# Altium schematic symbol library H27UCG8T2ATR.SchLib: 1 symbol
Pins are listed as number, name and electrical type; pins without a type are passive.

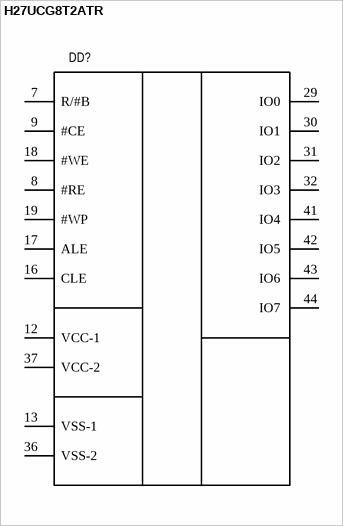
[diagram p0: symbol H27UCG8T2ATR]

## H27UCG8T2ATR
designator DD?
pins: 7 R/#B, 8 #RE, 9 #CE, 12 VCC-1, 13 VSS-1, 16 CLE, 17 ALE, 18 #WE, 19 #WP, 29 IO0, 30 IO1, 31 IO2, 32 IO3, 36 VSS-2, 37 VCC-2, 41 IO4, 42 IO5, 43 IO6, 44 IO7